# EAGLE library part ATMEGA328-PU (library Controller)
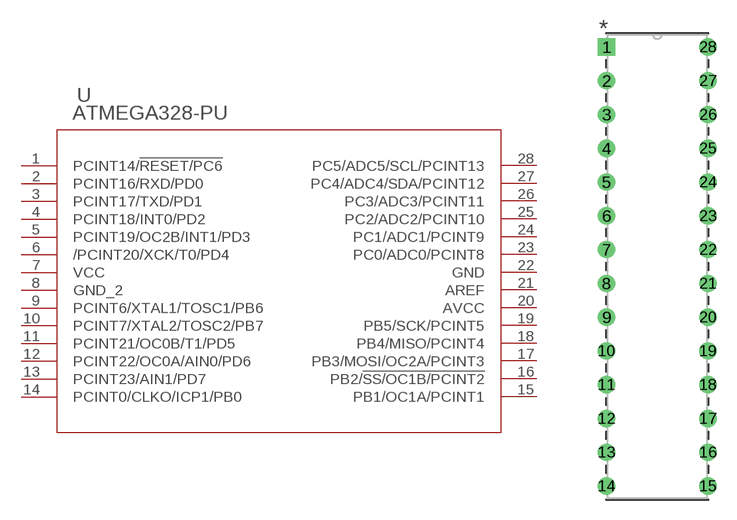
[diagram p3: symbol with the pads of 28P3; footprint 28P3]

Designator prefix U

## ATMEGA328-PU (MANUFACTURER_PART_NUMBER: ATMEGA328PU; VENDOR: Atmel)  [28P3]
1  PCINT14/!RESET/PC6
2  PCINT16/RXD/PD0
3  PCINT17/TXD/PD1
4  PCINT18/INT0/PD2
5  PCINT19/OC2B/INT1/PD3
6  /PCINT20/XCK/T0/PD4
7  VCC  pwr
8  GND_2  pwr
9  PCINT6/XTAL1/TOSC1/PB6
10  PCINT7/XTAL2/TOSC2/PB7
11  PCINT21/OC0B/T1/PD5
12  PCINT22/OC0A/AIN0/PD6
13  PCINT23/AIN1/PD7
14  PCINT0/CLKO/ICP1/PB0
15  PB1/OC1A/PCINT1
16  PB2/!SS/OC1B/PCINT2
17  PB3/MOSI/OC2A/PCINT3
18  PB4/MISO/PCINT4
19  PB5/SCK/PCINT5
20  AVCC  pwr
21  AREF  pwr
22  GND  pwr
23  PC0/ADC0/PCINT8
24  PC1/ADC1/PCINT9
25  PC2/ADC2/PCINT10
26  PC3/ADC3/PCINT11
27  PC4/ADC4/SDA/PCINT12
28  PC5/ADC5/SCL/PCINT13

## Footprint 28P3 (pad centres in mm)
drill 0.787 pad 1.295 square: 1 -7.62,33.02
drill 0.787 pad 1.295: 2 -7.62,30.48; 3 -7.62,27.94; 4 -7.62,25.4; 5 -7.62,22.86; 6 -7.62,20.32; 7 -7.62,17.78; 8 -7.62,15.24; 9 -7.62,12.7; 10 -7.62,10.16; 11 -7.62,7.62; 12 -7.62,5.08; 13 -7.62,2.54; 14 -7.62,0; 15 0,0; 16 0,2.54; 17 0,5.08; 18 0,7.62; 19 0,10.16; 20 0,12.7; 21 0,15.24; 22 0,17.78; 23 0,20.32; 24 0,22.86; 25 0,25.4; 26 0,27.94; 27 0,30.48; 28 0,33.02